# Altium integrated library TI_Logic_Little_Logic.IntLib: 1164 symbols (part 35 of 35)
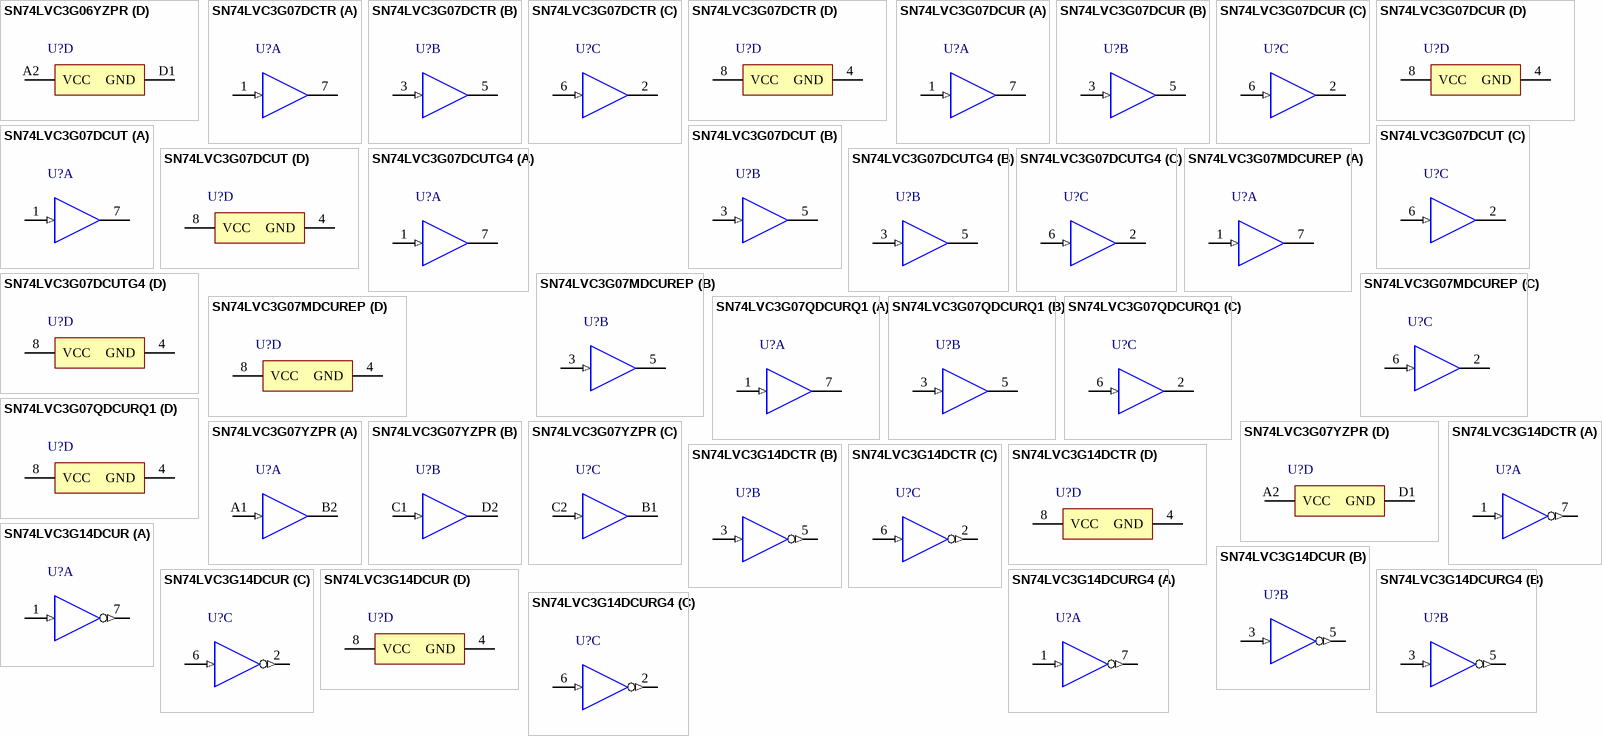
[diagram p94: symbols SN74LVC3G06YZPR to SN74LVC3G14DCURG4]

## SN74LVC3G07DCUT
designator U?
Triple Buffer/Driver With Open-Drain Output, DCU0008A, SMALL T&R; Generic Part Number: SN74LVC3G07; Manufacturer: Texas Instruments; PartNumber: SN74LVC3G07DCUT; VCC(Min)(V): 1.65; VCC(Max)(V): 5.5; Output Type: CMOS; ICC @ Nom Voltage(Max)(mA): 0.01; Input Type: CMOS/TTL; Bits(#): 3; F @ Nom Voltage(Max)(Mhz): 150; Rating: Catalog; Technology Family: LVC; Voltage(Nom)(V): 1.8,2.5,3.3,5; Schmitt Trigger: No; Output Drive (IOL/IOH)(Max)(mA): 32/-32; tpd @ Nom Voltage(Max)(ns): 8.3,4.8,4.2,3.4; Logic: True; Sub-Family: Non-Inverting Buffer/Driver; DatasheetVersion: SCES365K; PackageReference: DCU0008A; Supplier 1: Mouser; Supplier Part Number 1: 595-SN74LVC3G07DCUT; Supplier 2: Digi-Key; Supplier Part Number 2: 296-32333-2-ND; Supplier 3: Digi-Key; Supplier Part Number 3: 296-32333-1-ND; Supplier 4: Digi-Key; Supplier Part Number 4: 296-32333-6-ND; Operating Temperature Range(C): -40 to 125,-40 to 85; 3-State Output: No; ComponentLink1Description: Manufacturer URL; ComponentLink1URL: http://www.ti.com/; ComponentLink2Description: Datasheet; ComponentLink2URL: http://www.ti.com/lit/ds/symlink/sn74lvc3g07.pdf
footprint DCU0008A_N (SOP, 8-Leads, Body 2.4x2.1mm, Pitch 0.5mm, IPC Medium Density)
footprint DCU0008A_M (SOP, 8-Leads, Body 2.4x2.1mm, Pitch 0.5mm, IPC Low Density)
footprint DCU0008A_L (SOP, 8-Leads, Body 2.4x2.1mm, Pitch 0.5mm, IPC High Density)
part A pins: 1 1A (in), 7 1Y (oc)
part B pins: 3 2A (in), 5 2Y (oc)
part C pins: 2 3Y (oc), 6 3A (in)
part D pins: 4 GND (power), 8 VCC (power)

## SN74LVC3G07DCUTG4
designator U?
Triple Buffer/Driver With Open-Drain Output, DCU0008A, SMALL T&R; Generic Part Number: SN74LVC3G07; Manufacturer: Texas Instruments; PartNumber: SN74LVC3G07DCUTG4; VCC(Min)(V): 1.65; VCC(Max)(V): 5.5; Output Type: CMOS; ICC @ Nom Voltage(Max)(mA): 0.01; Input Type: CMOS/TTL; Bits(#): 3; F @ Nom Voltage(Max)(Mhz): 150; Rating: Catalog; Technology Family: LVC; Voltage(Nom)(V): 1.8,2.5,3.3,5; Schmitt Trigger: No; Output Drive (IOL/IOH)(Max)(mA): 32/-32; tpd @ Nom Voltage(Max)(ns): 8.3,4.8,4.2,3.4; Logic: True; Sub-Family: Non-Inverting Buffer/Driver; DatasheetVersion: SCES365K; PackageReference: DCU0008A; Supplier 1: Mouser; Supplier Part Number 1: 595-74LVC3G07DCUTG4; Supplier 2: Digi-Key; Supplier Part Number 2: SN74LVC3G07DCUTG4-ND; Operating Temperature Range(C): -40 to 125,-40 to 85; 3-State Output: No; ComponentLink1Description: Manufacturer URL; ComponentLink1URL: http://www.ti.com/; ComponentLink2Description: Datasheet; ComponentLink2URL: http://www.ti.com/lit/ds/symlink/sn74lvc3g07.pdf
footprint DCU0008A_N (SOP, 8-Leads, Body 2.4x2.1mm, Pitch 0.5mm, IPC Medium Density)
footprint DCU0008A_M (SOP, 8-Leads, Body 2.4x2.1mm, Pitch 0.5mm, IPC Low Density)
footprint DCU0008A_L (SOP, 8-Leads, Body 2.4x2.1mm, Pitch 0.5mm, IPC High Density)
part A pins: 1 1A (in), 7 1Y (oc)
part B pins: 3 2A (in), 5 2Y (oc)
part C pins: 2 3Y (oc), 6 3A (in)
part D pins: 4 GND (power), 8 VCC (power)

## SN74LVC3G07MDCUREP
designator U?
Enhanced Product Triple Buffer/Driver With Open-Drain Output, DCU0008A, LARGE T&R; Generic Part Number: SN74LVC3G07-EP; Manufacturer: Texas Instruments; PartNumber: SN74LVC3G07MDCUREP; VCC(Min)(V): 1.65; VCC(Max)(V): 5.5; Output Type: CMOS; ICC @ Nom Voltage(Max)(mA): 0.01; Input Type: CMOS/TTL; Bits(#): 3; F @ Nom Voltage(Max)(Mhz): 150; Rating: HiRel Enhanced Product; Technology Family: LVC; Voltage(Nom)(V): 1.8,2.5,3.3,5; Schmitt Trigger: No; Output Drive (IOL/IOH)(Max)(mA): 32/-32; tpd @ Nom Voltage(Max)(ns): 7.3,6.7,5.9; Logic: True; Sub-Family: Non-Inverting Buffer/Driver; DatasheetVersion: SCES769; PackageReference: DCU0008A; Supplier 1: Mouser; Supplier Part Number 1: 595-74LVC3G07MDCUREP; Supplier 2: Digi-Key; Supplier Part Number 2: 296-23953-2-ND; Supplier 3: Digi-Key; Supplier Part Number 3: 296-23953-1-ND; Supplier 4: Digi-Key; Supplier Part Number 4: 296-23953-6-ND; Operating Temperature Range(C): -55 to 125; 3-State Output: No; ComponentLink1Description: Manufacturer URL; ComponentLink1URL: http://www.ti.com/; ComponentLink2Description: Datasheet; ComponentLink2URL: http://www.ti.com/lit/ds/symlink/sn74lvc3g07-ep.pdf
footprint DCU0008A_N (SOP, 8-Leads, Body 2.4x2.1mm, Pitch 0.5mm, IPC Medium Density)
footprint DCU0008A_M (SOP, 8-Leads, Body 2.4x2.1mm, Pitch 0.5mm, IPC Low Density)
footprint DCU0008A_L (SOP, 8-Leads, Body 2.4x2.1mm, Pitch 0.5mm, IPC High Density)
part A pins: 1 1A (in), 7 1Y (oc)
part B pins: 3 2A (in), 5 2Y (oc)
part C pins: 2 3Y (oc), 6 3A (in)
part D pins: 4 GND (power), 8 VCC (power)

## SN74LVC3G07QDCURQ1
designator U?
Automotive Catalog Triple Buffer/Driver With Open-Drain Output, DCU0008A, LARGE T&R; Generic Part Number: SN74LVC3G07-Q1; Manufacturer: Texas Instruments; PartNumber: SN74LVC3G07QDCURQ1; VCC(Min)(V): 1.65; VCC(Max)(V): 5.5; Output Type: CMOS; ICC @ Nom Voltage(Max)(mA): 0.01; Input Type: CMOS/TTL; Bits(#): 3; F @ Nom Voltage(Max)(Mhz): 150; Technology Family: LVC; Voltage(Nom)(V): 1.8,2.5,3.3,5; Schmitt Trigger: No; Output Drive (IOL/IOH)(Max)(mA): 32/-32; tpd @ Nom Voltage(Max)(ns): 7.8,4.3,3.7,2.9; Logic: True; Sub-Family: Non-Inverting Buffer/Driver; DatasheetVersion: SCES616B; PackageReference: DCU0008A; Supplier 1: Mouser; Supplier Part Number 1: 595-SN74LVC3G07QDCQ1; Supplier 2: Digi-Key; Supplier Part Number 2: 296-23710-2-ND; Supplier 3: Digi-Key; Supplier Part Number 3: 296-23710-1-ND; Supplier 4: Digi-Key; Supplier Part Number 4: 296-23710-6-ND; Operating Temperature Range(C): -40 to 125; Rating: Automotive; 3-State Output: No; ComponentLink1Description: Manufacturer URL; ComponentLink1URL: http://www.ti.com/; ComponentLink2Description: Datasheet; ComponentLink2URL: http://www.ti.com/lit/ds/symlink/sn74lvc3g07-q1.pdf
footprint DCU0008A_N (SOP, 8-Leads, Body 2.4x2.1mm, Pitch 0.5mm, IPC Medium Density)
footprint DCU0008A_M (SOP, 8-Leads, Body 2.4x2.1mm, Pitch 0.5mm, IPC Low Density)
footprint DCU0008A_L (SOP, 8-Leads, Body 2.4x2.1mm, Pitch 0.5mm, IPC High Density)
part A pins: 1 1A (in), 7 1Y (oc)
part B pins: 3 2A (in), 5 2Y (oc)
part C pins: 2 3Y (oc), 6 3A (in)
part D pins: 4 GND (power), 8 VCC (power)

## SN74LVC3G07YZPR
designator U?
Triple Buffer/Driver With Open-Drain Output, YZP0008ADAD, LARGE T&R; Generic Part Number: SN74LVC3G07; Manufacturer: Texas Instruments; PartNumber: SN74LVC3G07YZPR; VCC(Min)(V): 1.65; VCC(Max)(V): 5.5; Output Type: CMOS; ICC @ Nom Voltage(Max)(mA): 0.01; Input Type: CMOS/TTL; Bits(#): 3; F @ Nom Voltage(Max)(Mhz): 150; Rating: Catalog; Technology Family: LVC; Voltage(Nom)(V): 1.8,2.5,3.3,5; Schmitt Trigger: No; Output Drive (IOL/IOH)(Max)(mA): 32/-32; tpd @ Nom Voltage(Max)(ns): 8.3,4.8,4.2,3.4; Logic: True; Sub-Family: Non-Inverting Buffer/Driver; DatasheetVersion: SCES365K; PackageReference: YZP0008ADAD; Supplier 1: Mouser; Supplier Part Number 1: 595-SN74LVC3G07YZPR; Supplier 2: Digi-Key; Supplier Part Number 2: 296-18260-2-ND; Supplier 3: Digi-Key; Supplier Part Number 3: 296-18260-1-ND; Supplier 4: Digi-Key; Supplier Part Number 4: 296-18260-6-ND; Operating Temperature Range(C): -40 to 125,-40 to 85; 3-State Output: No; ComponentLink1Description: Manufacturer URL; ComponentLink1URL: http://www.ti.com/; ComponentLink2Description: Datasheet; ComponentLink2URL: http://www.ti.com/lit/ds/symlink/sn74lvc3g07.pdf
footprint YZP0008ADAD (BGA, 8-Balls, Body 1.89x0.89mm, Pitch 0.5mm)
part A pins: A1 1A (in), B2 1Y (oc)
part B pins: C1 2A (in), D2 2Y (oc)
part C pins: B1 3Y (oc), C2 3A (in)
part D pins: A2 VCC (power), D1 GND (power)

## SN74LVC3G14DCTR
designator U?
Triple Schmitt-Trigger Inverter, DCT0008A, LARGE T&R; Generic Part Number: SN74LVC3G14; Manufacturer: Texas Instruments; PartNumber: SN74LVC3G14DCTR; VCC(Min)(V): 1.65; VCC(Max)(V): 5.5; Output Type: CMOS; ICC @ Nom Voltage(Max)(mA): 0.01; Input Type: CMOS/TTL; Bits(#): 3; F @ Nom Voltage(Max)(Mhz): 150; Rating: Catalog; Technology Family: LVC; Voltage(Nom)(V): 1.8,2.5,3.3,5; Schmitt Trigger: Yes; Output Drive (IOL/IOH)(Max)(mA): 32/-32; tpd @ Nom Voltage(Max)(ns): 9.2,5.7,5.4,4.3; Logic: Inverting; Sub-Family: Inverting Buffer/Driver; 3-State Output: No; DatasheetVersion: SCES367J; PackageReference: DCT0008A; Supplier 1: Mouser; Supplier Part Number 1: 595-SN74LVC3G14DCTR; Supplier 2: Digi-Key; Supplier Part Number 2: 296-13284-2-ND; Supplier 3: Digi-Key; Supplier Part Number 3: 296-13284-1-ND; Supplier 4: Digi-Key; Supplier Part Number 4: 296-13284-6-ND; Operating Temperature Range(C): -40 to 125; ComponentLink1Description: Manufacturer URL; ComponentLink1URL: http://www.ti.com/; ComponentLink2Description: Datasheet; ComponentLink2URL: http://www.ti.com/lit/ds/symlink/sn74lvc3g14.pdf
footprint DCT0008A_N (SOP, 8-Leads, Body 2.9x3.2mm, Pitch 0.65mm, IPC Medium Density)
footprint DCT0008A_M (SOP, 8-Leads, Body 2.9x3.2mm, Pitch 0.65mm, IPC Low Density)
footprint DCT0008A_L (SOP, 8-Leads, Body 2.9x3.2mm, Pitch 0.65mm, IPC High Density)
part A pins: 1 1A (in), 7 1Y (out)
part B pins: 3 2A (in), 5 2Y (out)
part C pins: 2 3Y (out), 6 3A (in)
part D pins: 4 GND (power), 8 VCC (power)

## SN74LVC3G14DCUR
designator U?
Triple Schmitt-Trigger Inverter, DCU0008A, LARGE T&R; Generic Part Number: SN74LVC3G14; Manufacturer: Texas Instruments; PartNumber: SN74LVC3G14DCUR; VCC(Min)(V): 1.65; VCC(Max)(V): 5.5; Output Type: CMOS; ICC @ Nom Voltage(Max)(mA): 0.01; Input Type: CMOS/TTL; Bits(#): 3; F @ Nom Voltage(Max)(Mhz): 150; Rating: Catalog; Technology Family: LVC; Voltage(Nom)(V): 1.8,2.5,3.3,5; Schmitt Trigger: Yes; Output Drive (IOL/IOH)(Max)(mA): 32/-32; tpd @ Nom Voltage(Max)(ns): 9.2,5.7,5.4,4.3; Logic: Inverting; Sub-Family: Inverting Buffer/Driver; 3-State Output: No; DatasheetVersion: SCES367J; PackageReference: DCU0008A; Supplier 1: Mouser; Supplier Part Number 1: 595-SN74LVC3G14DCUR; Supplier 2: Digi-Key; Supplier Part Number 2: 296-13006-2-ND; Supplier 3: Digi-Key; Supplier Part Number 3: 296-13006-1-ND; Supplier 4: Digi-Key; Supplier Part Number 4: 296-13006-6-ND; Operating Temperature Range(C): -40 to 125; ComponentLink1Description: Manufacturer URL; ComponentLink1URL: http://www.ti.com/; ComponentLink2Description: Datasheet; ComponentLink2URL: http://www.ti.com/lit/ds/symlink/sn74lvc3g14.pdf
footprint DCU0008A_N (SOP, 8-Leads, Body 2.4x2.1mm, Pitch 0.5mm, IPC Medium Density)
footprint DCU0008A_M (SOP, 8-Leads, Body 2.4x2.1mm, Pitch 0.5mm, IPC Low Density)
footprint DCU0008A_L (SOP, 8-Leads, Body 2.4x2.1mm, Pitch 0.5mm, IPC High Density)
part A pins: 1 1A (in), 7 1Y (out)
part B pins: 3 2A (in), 5 2Y (out)
part C pins: 2 3Y (out), 6 3A (in)
part D pins: 4 GND (power), 8 VCC (power)

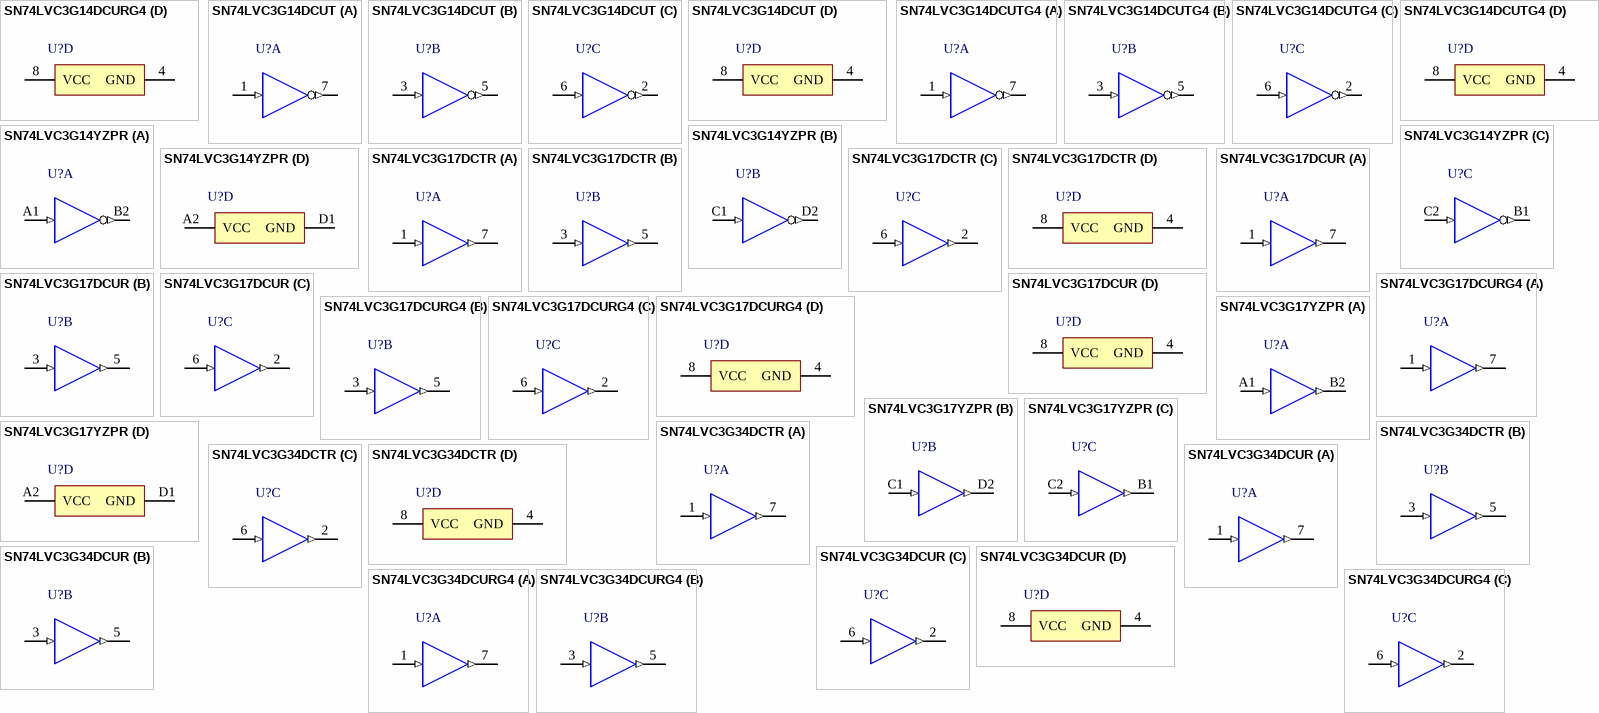
[diagram p59: symbols SN74LVC3G14DCURG4 to SN74LVC3G34DCURG4]

## SN74LVC3G14DCURG4
designator U?
Triple Schmitt-Trigger Inverter, DCU0008A, LARGE T&R; Generic Part Number: SN74LVC3G14; Manufacturer: Texas Instruments; PartNumber: SN74LVC3G14DCURG4; VCC(Min)(V): 1.65; VCC(Max)(V): 5.5; Output Type: CMOS; ICC @ Nom Voltage(Max)(mA): 0.01; Input Type: CMOS/TTL; Bits(#): 3; F @ Nom Voltage(Max)(Mhz): 150; Rating: Catalog; Technology Family: LVC; Voltage(Nom)(V): 1.8,2.5,3.3,5; Schmitt Trigger: Yes; Output Drive (IOL/IOH)(Max)(mA): 32/-32; tpd @ Nom Voltage(Max)(ns): 9.2,5.7,5.4,4.3; Logic: Inverting; Sub-Family: Inverting Buffer/Driver; 3-State Output: No; DatasheetVersion: SCES367J; PackageReference: DCU0008A; Supplier 1: Mouser; Supplier Part Number 1: 595-74LVC3G14DCURG4; Supplier 2: Digi-Key; Supplier Part Number 2: SN74LVC3G14DCURG4-ND; Operating Temperature Range(C): -40 to 125; ComponentLink1Description: Manufacturer URL; ComponentLink1URL: http://www.ti.com/; ComponentLink2Description: Datasheet; ComponentLink2URL: http://www.ti.com/lit/ds/symlink/sn74lvc3g14.pdf
footprint DCU0008A_N (SOP, 8-Leads, Body 2.4x2.1mm, Pitch 0.5mm, IPC Medium Density)
footprint DCU0008A_M (SOP, 8-Leads, Body 2.4x2.1mm, Pitch 0.5mm, IPC Low Density)
footprint DCU0008A_L (SOP, 8-Leads, Body 2.4x2.1mm, Pitch 0.5mm, IPC High Density)
part A pins: 1 1A (in), 7 1Y (out)
part B pins: 3 2A (in), 5 2Y (out)
part C pins: 2 3Y (out), 6 3A (in)
part D pins: 4 GND (power), 8 VCC (power)

## SN74LVC3G14DCUT
designator U?
Triple Schmitt-Trigger Inverter, DCU0008A, SMALL T&R; Generic Part Number: SN74LVC3G14; Manufacturer: Texas Instruments; PartNumber: SN74LVC3G14DCUT; VCC(Min)(V): 1.65; VCC(Max)(V): 5.5; Output Type: CMOS; ICC @ Nom Voltage(Max)(mA): 0.01; Input Type: CMOS/TTL; Bits(#): 3; F @ Nom Voltage(Max)(Mhz): 150; Rating: Catalog; Technology Family: LVC; Voltage(Nom)(V): 1.8,2.5,3.3,5; Schmitt Trigger: Yes; Output Drive (IOL/IOH)(Max)(mA): 32/-32; tpd @ Nom Voltage(Max)(ns): 9.2,5.7,5.4,4.3; Logic: Inverting; Sub-Family: Inverting Buffer/Driver; 3-State Output: No; DatasheetVersion: SCES367J; PackageReference: DCU0008A; Supplier 1: Mouser; Supplier Part Number 1: 595-SN74LVC3G14DCUT; Supplier 2: Digi-Key; Supplier Part Number 2: 296-32334-2-ND; Supplier 3: Digi-Key; Supplier Part Number 3: 296-32334-1-ND; Supplier 4: Digi-Key; Supplier Part Number 4: 296-32334-6-ND; Operating Temperature Range(C): -40 to 125; ComponentLink1Description: Manufacturer URL; ComponentLink1URL: http://www.ti.com/; ComponentLink2Description: Datasheet; ComponentLink2URL: http://www.ti.com/lit/ds/symlink/sn74lvc3g14.pdf
footprint DCU0008A_N (SOP, 8-Leads, Body 2.4x2.1mm, Pitch 0.5mm, IPC Medium Density)
footprint DCU0008A_M (SOP, 8-Leads, Body 2.4x2.1mm, Pitch 0.5mm, IPC Low Density)
footprint DCU0008A_L (SOP, 8-Leads, Body 2.4x2.1mm, Pitch 0.5mm, IPC High Density)
part A pins: 1 1A (in), 7 1Y (out)
part B pins: 3 2A (in), 5 2Y (out)
part C pins: 2 3Y (out), 6 3A (in)
part D pins: 4 GND (power), 8 VCC (power)

## SN74LVC3G14DCUTG4
designator U?
Triple Schmitt-Trigger Inverter, DCU0008A, SMALL T&R; Generic Part Number: SN74LVC3G14; Manufacturer: Texas Instruments; PartNumber: SN74LVC3G14DCUTG4; VCC(Min)(V): 1.65; VCC(Max)(V): 5.5; Output Type: CMOS; ICC @ Nom Voltage(Max)(mA): 0.01; Input Type: CMOS/TTL; Bits(#): 3; F @ Nom Voltage(Max)(Mhz): 150; Rating: Catalog; Technology Family: LVC; Voltage(Nom)(V): 1.8,2.5,3.3,5; Schmitt Trigger: Yes; Output Drive (IOL/IOH)(Max)(mA): 32/-32; tpd @ Nom Voltage(Max)(ns): 9.2,5.7,5.4,4.3; Logic: Inverting; Sub-Family: Inverting Buffer/Driver; 3-State Output: No; DatasheetVersion: SCES367J; PackageReference: DCU0008A; Supplier 1: Mouser; Supplier Part Number 1: 595-S74LVC3G14DCUTG4; Supplier 2: Digi-Key; Supplier Part Number 2: SN74LVC3G14DCUTG4-ND; Operating Temperature Range(C): -40 to 125; ComponentLink1Description: Manufacturer URL; ComponentLink1URL: http://www.ti.com/; ComponentLink2Description: Datasheet; ComponentLink2URL: http://www.ti.com/lit/ds/symlink/sn74lvc3g14.pdf
footprint DCU0008A_N (SOP, 8-Leads, Body 2.4x2.1mm, Pitch 0.5mm, IPC Medium Density)
footprint DCU0008A_M (SOP, 8-Leads, Body 2.4x2.1mm, Pitch 0.5mm, IPC Low Density)
footprint DCU0008A_L (SOP, 8-Leads, Body 2.4x2.1mm, Pitch 0.5mm, IPC High Density)
part A pins: 1 1A (in), 7 1Y (out)
part B pins: 3 2A (in), 5 2Y (out)
part C pins: 2 3Y (out), 6 3A (in)
part D pins: 4 GND (power), 8 VCC (power)

## SN74LVC3G14YZPR
designator U?
Triple Schmitt-Trigger Inverter, YZP0008ADAD, LARGE T&R; Generic Part Number: SN74LVC3G14; Manufacturer: Texas Instruments; PartNumber: SN74LVC3G14YZPR; VCC(Min)(V): 1.65; VCC(Max)(V): 5.5; Output Type: CMOS; ICC @ Nom Voltage(Max)(mA): 0.01; Input Type: CMOS/TTL; Bits(#): 3; F @ Nom Voltage(Max)(Mhz): 150; Rating: Catalog; Technology Family: LVC; Voltage(Nom)(V): 1.8,2.5,3.3,5; Schmitt Trigger: Yes; Output Drive (IOL/IOH)(Max)(mA): 32/-32; tpd @ Nom Voltage(Max)(ns): 9.2,5.7,5.4,4.3; Logic: Inverting; Sub-Family: Inverting Buffer/Driver; 3-State Output: No; DatasheetVersion: SCES367J; PackageReference: YZP0008ADAD; Supplier 1: Mouser; Supplier Part Number 1: 595-SN74LVC3G14YZPR; Supplier 2: Digi-Key; Supplier Part Number 2: 296-18817-2-ND; Supplier 3: Digi-Key; Supplier Part Number 3: 296-18817-1-ND; Supplier 4: Digi-Key; Supplier Part Number 4: 296-18817-6-ND; Operating Temperature Range(C): -40 to 125; ComponentLink1Description: Manufacturer URL; ComponentLink1URL: http://www.ti.com/; ComponentLink2Description: Datasheet; ComponentLink2URL: http://www.ti.com/lit/ds/symlink/sn74lvc3g14.pdf
footprint YZP0008ADAD (BGA, 8-Balls, Body 1.89x0.89mm, Pitch 0.5mm)
part A pins: A1 1A (in), B2 1Y (out)
part B pins: C1 2A (in), D2 2Y (out)
part C pins: B1 3Y (out), C2 3A (in)
part D pins: A2 VCC (power), D1 GND (power)

## SN74LVC3G17DCTR
designator U?
TRIPLE SCHMITT-TRIGGER BUFFER, DCT0008A, LARGE T&R; Generic Part Number: SN74LVC3G17; Manufacturer: Texas Instruments; PartNumber: SN74LVC3G17DCTR; VCC(Min)(V): 1.65; VCC(Max)(V): 5.5; Output Type: CMOS; ICC @ Nom Voltage(Max)(mA): 0.01; Input Type: CMOS/TTL; Bits(#): 3; F @ Nom Voltage(Max)(Mhz): 150; Rating: Catalog; Technology Family: LVC; Voltage(Nom)(V): 1.8,2.5,3.3,5; Schmitt Trigger: Yes; Output Drive (IOL/IOH)(Max)(mA): 32/-32; tpd @ Nom Voltage(Max)(ns): 9.2,6.2,5.4,4.1; Logic: True; Sub-Family: Non-Inverting Buffer/Driver; 3-State Output: No; DatasheetVersion: SCES470E; PackageReference: DCT0008A; Supplier 1: Mouser; Supplier Part Number 1: 595-SN74LVC3G17DCTR; Supplier 2: Digi-Key; Supplier Part Number 2: 296-16915-2-ND; Supplier 3: Digi-Key; Supplier Part Number 3: 296-16915-1-ND; Supplier 4: Digi-Key; Supplier Part Number 4: 296-16915-6-ND; Operating Temperature Range(C): -40 to 125,-40 to 85; ComponentLink1Description: Manufacturer URL; ComponentLink1URL: http://www.ti.com/; ComponentLink2Description: Datasheet; ComponentLink2URL: http://www.ti.com/lit/ds/symlink/sn74lvc3g17.pdf
footprint DCT0008A_N (SOP, 8-Leads, Body 2.9x3.2mm, Pitch 0.65mm, IPC Medium Density)
footprint DCT0008A_M (SOP, 8-Leads, Body 2.9x3.2mm, Pitch 0.65mm, IPC Low Density)
footprint DCT0008A_L (SOP, 8-Leads, Body 2.9x3.2mm, Pitch 0.65mm, IPC High Density)
part A pins: 1 1A (in), 7 1Y (out)
part B pins: 3 2A (in), 5 2Y (out)
part C pins: 2 3Y (out), 6 3A (in)
part D pins: 4 GND (power), 8 VCC (power)

## SN74LVC3G17DCUR
designator U?
TRIPLE SCHMITT-TRIGGER BUFFER, DCU0008A, LARGE T&R; Generic Part Number: SN74LVC3G17; Manufacturer: Texas Instruments; PartNumber: SN74LVC3G17DCUR; VCC(Min)(V): 1.65; VCC(Max)(V): 5.5; Output Type: CMOS; ICC @ Nom Voltage(Max)(mA): 0.01; Input Type: CMOS/TTL; Bits(#): 3; F @ Nom Voltage(Max)(Mhz): 150; Rating: Catalog; Technology Family: LVC; Voltage(Nom)(V): 1.8,2.5,3.3,5; Schmitt Trigger: Yes; Output Drive (IOL/IOH)(Max)(mA): 32/-32; tpd @ Nom Voltage(Max)(ns): 9.2,6.2,5.4,4.1; Logic: True; Sub-Family: Non-Inverting Buffer/Driver; 3-State Output: No; DatasheetVersion: SCES470E; PackageReference: DCU0008A; Supplier 1: Mouser; Supplier Part Number 1: 595-SN74LVC3G17DCUR; Supplier 2: Digi-Key; Supplier Part Number 2: 296-18818-2-ND; Supplier 3: Digi-Key; Supplier Part Number 3: 296-18818-1-ND; Supplier 4: Digi-Key; Supplier Part Number 4: 296-18818-6-ND; Operating Temperature Range(C): -40 to 125,-40 to 85; ComponentLink1Description: Manufacturer URL; ComponentLink1URL: http://www.ti.com/; ComponentLink2Description: Datasheet; ComponentLink2URL: http://www.ti.com/lit/ds/symlink/sn74lvc3g17.pdf
footprint DCU0008A_N (SOP, 8-Leads, Body 2.4x2.1mm, Pitch 0.5mm, IPC Medium Density)
footprint DCU0008A_M (SOP, 8-Leads, Body 2.4x2.1mm, Pitch 0.5mm, IPC Low Density)
footprint DCU0008A_L (SOP, 8-Leads, Body 2.4x2.1mm, Pitch 0.5mm, IPC High Density)
part A pins: 1 1A (in), 7 1Y (out)
part B pins: 3 2A (in), 5 2Y (out)
part C pins: 2 3Y (out), 6 3A (in)
part D pins: 4 GND (power), 8 VCC (power)

## SN74LVC3G17DCURG4
designator U?
TRIPLE SCHMITT-TRIGGER BUFFER, DCU0008A, LARGE T&R; Generic Part Number: SN74LVC3G17; Manufacturer: Texas Instruments; PartNumber: SN74LVC3G17DCURG4; VCC(Min)(V): 1.65; VCC(Max)(V): 5.5; Output Type: CMOS; ICC @ Nom Voltage(Max)(mA): 0.01; Input Type: CMOS/TTL; Bits(#): 3; F @ Nom Voltage(Max)(Mhz): 150; Rating: Catalog; Technology Family: LVC; Voltage(Nom)(V): 1.8,2.5,3.3,5; Schmitt Trigger: Yes; Output Drive (IOL/IOH)(Max)(mA): 32/-32; tpd @ Nom Voltage(Max)(ns): 9.2,6.2,5.4,4.1; Logic: True; Sub-Family: Non-Inverting Buffer/Driver; 3-State Output: No; DatasheetVersion: SCES470E; PackageReference: DCU0008A; Supplier 1: Mouser; Supplier Part Number 1: 595-74LVC3G17DCURG4; Supplier 2: Digi-Key; Supplier Part Number 2: SN74LVC3G17DCURG4-ND; Operating Temperature Range(C): -40 to 125,-40 to 85; ComponentLink1Description: Manufacturer URL; ComponentLink1URL: http://www.ti.com/; ComponentLink2Description: Datasheet; ComponentLink2URL: http://www.ti.com/lit/ds/symlink/sn74lvc3g17.pdf
footprint DCU0008A_N (SOP, 8-Leads, Body 2.4x2.1mm, Pitch 0.5mm, IPC Medium Density)
footprint DCU0008A_M (SOP, 8-Leads, Body 2.4x2.1mm, Pitch 0.5mm, IPC Low Density)
footprint DCU0008A_L (SOP, 8-Leads, Body 2.4x2.1mm, Pitch 0.5mm, IPC High Density)
part A pins: 1 1A (in), 7 1Y (out)
part B pins: 3 2A (in), 5 2Y (out)
part C pins: 2 3Y (out), 6 3A (in)
part D pins: 4 GND (power), 8 VCC (power)

## SN74LVC3G17YZPR
designator U?
TRIPLE SCHMITT-TRIGGER BUFFER, YZP0008ADAD, LARGE T&R; Generic Part Number: SN74LVC3G17; Manufacturer: Texas Instruments; PartNumber: SN74LVC3G17YZPR; VCC(Min)(V): 1.65; VCC(Max)(V): 5.5; Output Type: CMOS; ICC @ Nom Voltage(Max)(mA): 0.01; Input Type: CMOS/TTL; Bits(#): 3; F @ Nom Voltage(Max)(Mhz): 150; Rating: Catalog; Technology Family: LVC; Voltage(Nom)(V): 1.8,2.5,3.3,5; Schmitt Trigger: Yes; Output Drive (IOL/IOH)(Max)(mA): 32/-32; tpd @ Nom Voltage(Max)(ns): 9.2,6.2,5.4,4.1; Logic: True; Sub-Family: Non-Inverting Buffer/Driver; 3-State Output: No; DatasheetVersion: SCES470E; PackageReference: YZP0008ADAD; Supplier 1: Mouser; Supplier Part Number 1: 595-SN74LVC3G17YZPR; Supplier 2: Digi-Key; Supplier Part Number 2: 296-18819-2-ND; Supplier 3: Digi-Key; Supplier Part Number 3: 296-18819-1-ND; Supplier 4: Digi-Key; Supplier Part Number 4: 296-18819-6-ND; Operating Temperature Range(C): -40 to 125,-40 to 85; ComponentLink1Description: Manufacturer URL; ComponentLink1URL: http://www.ti.com/; ComponentLink2Description: Datasheet; ComponentLink2URL: http://www.ti.com/lit/ds/symlink/sn74lvc3g17.pdf
footprint YZP0008ADAD (BGA, 8-Balls, Body 1.89x0.89mm, Pitch 0.5mm)
part A pins: A1 1A (in), B2 1Y (out)
part B pins: C1 2A (in), D2 2Y (out)
part C pins: B1 3Y (out), C2 3A (in)
part D pins: A2 VCC (power), D1 GND (power)

## SN74LVC3G34DCTR
designator U?
Triple Buffer Gate, DCT0008A, LARGE T&R; Generic Part Number: SN74LVC3G34; Manufacturer: Texas Instruments; PartNumber: SN74LVC3G34DCTR; VCC(Min)(V): 1.65; VCC(Max)(V): 5.5; Output Type: CMOS; ICC @ Nom Voltage(Max)(mA): 0.01; Input Type: CMOS/TTL; Bits(#): 3; F @ Nom Voltage(Max)(Mhz): 150; Rating: Catalog; Technology Family: LVC; Voltage(Nom)(V): 1.8,2.5,3.3,5; Schmitt Trigger: No; Output Drive (IOL/IOH)(Max)(mA): 32/-32; tpd @ Nom Voltage(Max)(ns): 7.9,4.4,4.1,3.2; Logic: True; Sub-Family: Non-Inverting Buffer/Driver; DatasheetVersion: SCES366K; PackageReference: DCT0008A; Supplier 1: Mouser; Supplier Part Number 1: 595-SN74LVC3G34DCTR; Supplier 2: Digi-Key; Supplier Part Number 2: 296-13285-2-ND; Supplier 3: Digi-Key; Supplier Part Number 3: 296-13285-1-ND; Supplier 4: Digi-Key; Supplier Part Number 4: 296-13285-6-ND; Operating Temperature Range(C): -40 to 125,-40 to 85; 3-State Output: No; ComponentLink1Description: Manufacturer URL; ComponentLink1URL: http://www.ti.com/; ComponentLink2Description: Datasheet; ComponentLink2URL: http://www.ti.com/lit/ds/symlink/sn74lvc3g34.pdf
footprint DCT0008A_N (SOP, 8-Leads, Body 2.9x3.2mm, Pitch 0.65mm, IPC Medium Density)
footprint DCT0008A_M (SOP, 8-Leads, Body 2.9x3.2mm, Pitch 0.65mm, IPC Low Density)
footprint DCT0008A_L (SOP, 8-Leads, Body 2.9x3.2mm, Pitch 0.65mm, IPC High Density)
part A pins: 1 1A (in), 7 1Y (out)
part B pins: 3 2A (in), 5 2Y (out)
part C pins: 2 3Y (out), 6 3A (in)
part D pins: 4 GND (power), 8 VCC (power)

## SN74LVC3G34DCUR
designator U?
Triple Buffer Gate, DCU0008A, LARGE T&R; Generic Part Number: SN74LVC3G34; Manufacturer: Texas Instruments; PartNumber: SN74LVC3G34DCUR; VCC(Min)(V): 1.65; VCC(Max)(V): 5.5; Output Type: CMOS; ICC @ Nom Voltage(Max)(mA): 0.01; Input Type: CMOS/TTL; Bits(#): 3; F @ Nom Voltage(Max)(Mhz): 150; Rating: Catalog; Technology Family: LVC; Voltage(Nom)(V): 1.8,2.5,3.3,5; Schmitt Trigger: No; Output Drive (IOL/IOH)(Max)(mA): 32/-32; tpd @ Nom Voltage(Max)(ns): 7.9,4.4,4.1,3.2; Logic: True; Sub-Family: Non-Inverting Buffer/Driver; DatasheetVersion: SCES366K; PackageReference: DCU0008A; Supplier 1: Mouser; Supplier Part Number 1: 595-SN74LVC3G34DCUR; Supplier 2: Digi-Key; Supplier Part Number 2: 296-13286-2-ND; Supplier 3: Digi-Key; Supplier Part Number 3: 296-13286-1-ND; Supplier 4: Digi-Key; Supplier Part Number 4: 296-13286-6-ND; Operating Temperature Range(C): -40 to 125,-40 to 85; 3-State Output: No; ComponentLink1Description: Manufacturer URL; ComponentLink1URL: http://www.ti.com/; ComponentLink2Description: Datasheet; ComponentLink2URL: http://www.ti.com/lit/ds/symlink/sn74lvc3g34.pdf
footprint DCU0008A_N (SOP, 8-Leads, Body 2.4x2.1mm, Pitch 0.5mm, IPC Medium Density)
footprint DCU0008A_M (SOP, 8-Leads, Body 2.4x2.1mm, Pitch 0.5mm, IPC Low Density)
footprint DCU0008A_L (SOP, 8-Leads, Body 2.4x2.1mm, Pitch 0.5mm, IPC High Density)
part A pins: 1 1A (in), 7 1Y (out)
part B pins: 3 2A (in), 5 2Y (out)
part C pins: 2 3Y (out), 6 3A (in)
part D pins: 4 GND (power), 8 VCC (power)

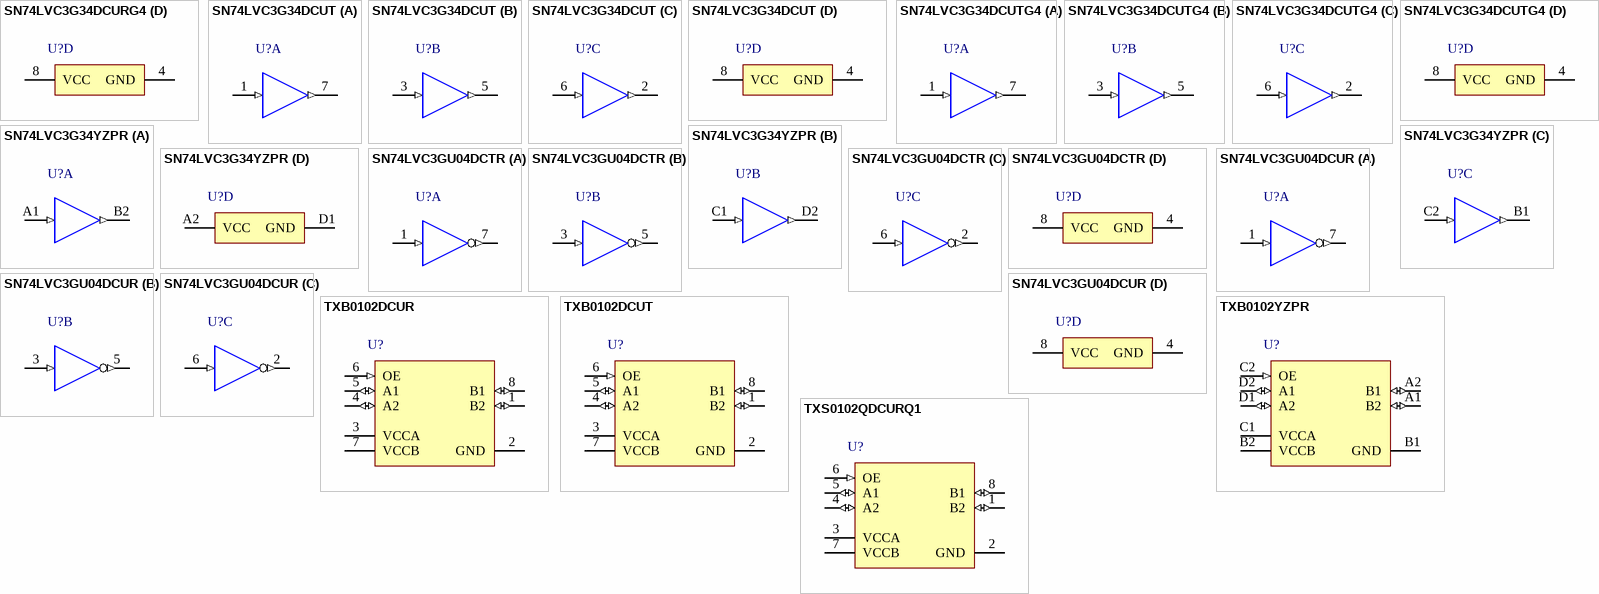
[diagram p60: symbols SN74LVC3G34DCURG4 to TXS0102QDCURQ1]

## SN74LVC3G34DCURG4
designator U?
Triple Buffer Gate, DCU0008A, LARGE T&R; Generic Part Number: SN74LVC3G34; Manufacturer: Texas Instruments; PartNumber: SN74LVC3G34DCURG4; VCC(Min)(V): 1.65; VCC(Max)(V): 5.5; Output Type: CMOS; ICC @ Nom Voltage(Max)(mA): 0.01; Input Type: CMOS/TTL; Bits(#): 3; F @ Nom Voltage(Max)(Mhz): 150; Rating: Catalog; Technology Family: LVC; Voltage(Nom)(V): 1.8,2.5,3.3,5; Schmitt Trigger: No; Output Drive (IOL/IOH)(Max)(mA): 32/-32; tpd @ Nom Voltage(Max)(ns): 7.9,4.4,4.1,3.2; Logic: True; Sub-Family: Non-Inverting Buffer/Driver; DatasheetVersion: SCES366K; PackageReference: DCU0008A; Supplier 1: Mouser; Supplier Part Number 1: 595-S74LVC3G34DCURG4; Supplier 2: Digi-Key; Supplier Part Number 2: SN74LVC3G34DCURG4-ND; Operating Temperature Range(C): -40 to 125,-40 to 85; 3-State Output: No; ComponentLink1Description: Manufacturer URL; ComponentLink1URL: http://www.ti.com/; ComponentLink2Description: Datasheet; ComponentLink2URL: http://www.ti.com/lit/ds/symlink/sn74lvc3g34.pdf
footprint DCU0008A_N (SOP, 8-Leads, Body 2.4x2.1mm, Pitch 0.5mm, IPC Medium Density)
footprint DCU0008A_M (SOP, 8-Leads, Body 2.4x2.1mm, Pitch 0.5mm, IPC Low Density)
footprint DCU0008A_L (SOP, 8-Leads, Body 2.4x2.1mm, Pitch 0.5mm, IPC High Density)
part A pins: 1 1A (in), 7 1Y (out)
part B pins: 3 2A (in), 5 2Y (out)
part C pins: 2 3Y (out), 6 3A (in)
part D pins: 4 GND (power), 8 VCC (power)

## SN74LVC3G34DCUT
designator U?
Triple Buffer Gate, DCU0008A, SMALL T&R; Generic Part Number: SN74LVC3G34; Manufacturer: Texas Instruments; PartNumber: SN74LVC3G34DCUT; VCC(Min)(V): 1.65; VCC(Max)(V): 5.5; Output Type: CMOS; ICC @ Nom Voltage(Max)(mA): 0.01; Input Type: CMOS/TTL; Bits(#): 3; F @ Nom Voltage(Max)(Mhz): 150; Rating: Catalog; Technology Family: LVC; Voltage(Nom)(V): 1.8,2.5,3.3,5; Schmitt Trigger: No; Output Drive (IOL/IOH)(Max)(mA): 32/-32; tpd @ Nom Voltage(Max)(ns): 7.9,4.4,4.1,3.2; Logic: True; Sub-Family: Non-Inverting Buffer/Driver; DatasheetVersion: SCES366K; PackageReference: DCU0008A; Supplier 1: Mouser; Supplier Part Number 1: 595-SN74LVC3G34DCUT; Supplier 2: Digi-Key; Supplier Part Number 2: 296-32335-2-ND; Supplier 3: Digi-Key; Supplier Part Number 3: 296-32335-1-ND; Supplier 4: Digi-Key; Supplier Part Number 4: 296-32335-6-ND; Operating Temperature Range(C): -40 to 125,-40 to 85; 3-State Output: No; ComponentLink1Description: Manufacturer URL; ComponentLink1URL: http://www.ti.com/; ComponentLink2Description: Datasheet; ComponentLink2URL: http://www.ti.com/lit/ds/symlink/sn74lvc3g34.pdf
footprint DCU0008A_N (SOP, 8-Leads, Body 2.4x2.1mm, Pitch 0.5mm, IPC Medium Density)
footprint DCU0008A_M (SOP, 8-Leads, Body 2.4x2.1mm, Pitch 0.5mm, IPC Low Density)
footprint DCU0008A_L (SOP, 8-Leads, Body 2.4x2.1mm, Pitch 0.5mm, IPC High Density)
part A pins: 1 1A (in), 7 1Y (out)
part B pins: 3 2A (in), 5 2Y (out)
part C pins: 2 3Y (out), 6 3A (in)
part D pins: 4 GND (power), 8 VCC (power)

## SN74LVC3G34DCUTG4
designator U?
Triple Buffer Gate, DCU0008A, SMALL T&R; Generic Part Number: SN74LVC3G34; Manufacturer: Texas Instruments; PartNumber: SN74LVC3G34DCUTG4; VCC(Min)(V): 1.65; VCC(Max)(V): 5.5; Output Type: CMOS; ICC @ Nom Voltage(Max)(mA): 0.01; Input Type: CMOS/TTL; Bits(#): 3; F @ Nom Voltage(Max)(Mhz): 150; Rating: Catalog; Technology Family: LVC; Voltage(Nom)(V): 1.8,2.5,3.3,5; Schmitt Trigger: No; Output Drive (IOL/IOH)(Max)(mA): 32/-32; tpd @ Nom Voltage(Max)(ns): 7.9,4.4,4.1,3.2; Logic: True; Sub-Family: Non-Inverting Buffer/Driver; DatasheetVersion: SCES366K; PackageReference: DCU0008A; Supplier 1: Mouser; Supplier Part Number 1: 595-74LVC3G34DCUTG4; Supplier 2: Digi-Key; Supplier Part Number 2: SN74LVC3G34DCUTG4-ND; Operating Temperature Range(C): -40 to 125,-40 to 85; 3-State Output: No; ComponentLink1Description: Manufacturer URL; ComponentLink1URL: http://www.ti.com/; ComponentLink2Description: Datasheet; ComponentLink2URL: http://www.ti.com/lit/ds/symlink/sn74lvc3g34.pdf
footprint DCU0008A_N (SOP, 8-Leads, Body 2.4x2.1mm, Pitch 0.5mm, IPC Medium Density)
footprint DCU0008A_M (SOP, 8-Leads, Body 2.4x2.1mm, Pitch 0.5mm, IPC Low Density)
footprint DCU0008A_L (SOP, 8-Leads, Body 2.4x2.1mm, Pitch 0.5mm, IPC High Density)
part A pins: 1 1A (in), 7 1Y (out)
part B pins: 3 2A (in), 5 2Y (out)
part C pins: 2 3Y (out), 6 3A (in)
part D pins: 4 GND (power), 8 VCC (power)

## SN74LVC3G34YZPR
designator U?
Triple Buffer Gate, YZP0008ADAD, LARGE T&R; Generic Part Number: SN74LVC3G34; Manufacturer: Texas Instruments; PartNumber: SN74LVC3G34YZPR; VCC(Min)(V): 1.65; VCC(Max)(V): 5.5; Output Type: CMOS; ICC @ Nom Voltage(Max)(mA): 0.01; Input Type: CMOS/TTL; Bits(#): 3; F @ Nom Voltage(Max)(Mhz): 150; Rating: Catalog; Technology Family: LVC; Voltage(Nom)(V): 1.8,2.5,3.3,5; Schmitt Trigger: No; Output Drive (IOL/IOH)(Max)(mA): 32/-32; tpd @ Nom Voltage(Max)(ns): 7.9,4.4,4.1,3.2; Logic: True; Sub-Family: Non-Inverting Buffer/Driver; DatasheetVersion: SCES366K; PackageReference: YZP0008ADAD; Supplier 1: Mouser; Supplier Part Number 1: 595-SN74LVC3G34YZPR; Supplier 2: Digi-Key; Supplier Part Number 2: 296-15111-2-ND; Supplier 3: Digi-Key; Supplier Part Number 3: 296-15111-1-ND; Supplier 4: Digi-Key; Supplier Part Number 4: 296-15111-6-ND; Operating Temperature Range(C): -40 to 125,-40 to 85; 3-State Output: No; ComponentLink1Description: Manufacturer URL; ComponentLink1URL: http://www.ti.com/; ComponentLink2Description: Datasheet; ComponentLink2URL: http://www.ti.com/lit/ds/symlink/sn74lvc3g34.pdf
footprint YZP0008ADAD (BGA, 8-Balls, Body 1.89x0.89mm, Pitch 0.5mm)
part A pins: A1 1A (in), B2 1Y (out)
part B pins: C1 2A (in), D2 2Y (out)
part C pins: B1 3Y (out), C2 3A (in)
part D pins: A2 VCC (power), D1 GND (power)

## SN74LVC3GU04DCTR
designator U?
Triple Inverter Gate, DCT0008A, LARGE T&R; Generic Part Number: SN74LVC3GU04; Manufacturer: Texas Instruments; PartNumber: SN74LVC3GU04DCTR; VCC(Min)(V): 1.65; VCC(Max)(V): 5.5; Output Type: CMOS; ICC @ Nom Voltage(Max)(mA): 0.01; Input Type: CMOS/TTL; Bits(#): 3; F @ Nom Voltage(Max)(Mhz): 150; Rating: Catalog; Technology Family: LVC; Voltage(Nom)(V): 1.8,2.5,3.3,5; Schmitt Trigger: No; Output Drive (IOL/IOH)(Max)(mA): 32/-32; tpd @ Nom Voltage(Max)(ns): 9.2,4,3.9,3.2; Logic: True; Sub-Family: Inverting Buffer/Driver; DatasheetVersion: SCES539D; PackageReference: DCT0008A; Supplier 1: Mouser; Supplier Part Number 1: 595-SN74LVC3GU04DCTR; Supplier 2: Digi-Key; Supplier Part Number 2: 296-18820-2-ND; Supplier 3: Digi-Key; Supplier Part Number 3: 296-18820-1-ND; Supplier 4: Digi-Key; Supplier Part Number 4: 296-18820-6-ND; Operating Temperature Range(C): -40 to 125; 3-State Output: No; ComponentLink1Description: Manufacturer URL; ComponentLink1URL: http://www.ti.com/; ComponentLink2Description: Datasheet; ComponentLink2URL: http://www.ti.com/lit/ds/symlink/sn74lvc3gu04.pdf
footprint DCT0008A_N (SOP, 8-Leads, Body 2.9x3.2mm, Pitch 0.65mm, IPC Medium Density)
footprint DCT0008A_M (SOP, 8-Leads, Body 2.9x3.2mm, Pitch 0.65mm, IPC Low Density)
footprint DCT0008A_L (SOP, 8-Leads, Body 2.9x3.2mm, Pitch 0.65mm, IPC High Density)
part A pins: 1 1A (in), 7 1Y (out)
part B pins: 3 2A (in), 5 2Y (out)
part C pins: 2 3Y (out), 6 3A (in)
part D pins: 4 GND (power), 8 VCC (power)

## SN74LVC3GU04DCUR
designator U?
Triple Inverter Gate, DCU0008A, LARGE T&R; Generic Part Number: SN74LVC3GU04; Manufacturer: Texas Instruments; PartNumber: SN74LVC3GU04DCUR; VCC(Min)(V): 1.65; VCC(Max)(V): 5.5; Output Type: CMOS; ICC @ Nom Voltage(Max)(mA): 0.01; Input Type: CMOS/TTL; Bits(#): 3; F @ Nom Voltage(Max)(Mhz): 150; Rating: Catalog; Technology Family: LVC; Voltage(Nom)(V): 1.8,2.5,3.3,5; Schmitt Trigger: No; Output Drive (IOL/IOH)(Max)(mA): 32/-32; tpd @ Nom Voltage(Max)(ns): 9.2,4,3.9,3.2; Logic: True; Sub-Family: Inverting Buffer/Driver; DatasheetVersion: SCES539D; PackageReference: DCU0008A; Supplier 1: Mouser; Supplier Part Number 1: 595-SN74LVC3GU04DCUR; Supplier 2: Digi-Key; Supplier Part Number 2: 296-18821-2-ND; Supplier 3: Digi-Key; Supplier Part Number 3: 296-18821-1-ND; Supplier 4: Digi-Key; Supplier Part Number 4: 296-18821-6-ND; Operating Temperature Range(C): -40 to 125; 3-State Output: No; ComponentLink1Description: Manufacturer URL; ComponentLink1URL: http://www.ti.com/; ComponentLink2Description: Datasheet; ComponentLink2URL: http://www.ti.com/lit/ds/symlink/sn74lvc3gu04.pdf
footprint DCU0008A_N (SOP, 8-Leads, Body 2.4x2.1mm, Pitch 0.5mm, IPC Medium Density)
footprint DCU0008A_M (SOP, 8-Leads, Body 2.4x2.1mm, Pitch 0.5mm, IPC Low Density)
footprint DCU0008A_L (SOP, 8-Leads, Body 2.4x2.1mm, Pitch 0.5mm, IPC High Density)
part A pins: 1 1A (in), 7 1Y (out)
part B pins: 3 2A (in), 5 2Y (out)
part C pins: 2 3Y (out), 6 3A (in)
part D pins: 4 GND (power), 8 VCC (power)

## TXB0102DCUR
designator U?
2-Bit Bidirectional Voltage-Level Translator with Auto Direction Sensing and +/-15-kV ESD Protect, DCU0008A, LARGE T&R; Generic Part Number: TXB0102; Manufacturer: Texas Instruments; PartNumber: TXB0102DCUR; VCC(Min)(V): 1.2; VCC(Max)(V): 5.5; Output Type: CMOS; Logic: True; ICC @ Nom Voltage(Max)(mA): 0.005; Input Type: CMOS/TTL; Bits(#): 2; Rating: Catalog; Voltage(Nom)(V): 3.3; Schmitt Trigger: No; Sub-Family: Dual Supply Translator; tpd @ Nom Voltage(Max)(ns): 4.9; DatasheetVersion: SCES641C; PackageReference: DCU0008A; Supplier 1: Mouser; Supplier Part Number 1: 595-TXB0102DCUR; Supplier 2: Digi-Key; Supplier Part Number 2: 296-22862-2-ND; Supplier 3: Digi-Key; Supplier Part Number 3: 296-22862-1-ND; Supplier 4: Digi-Key; Supplier Part Number 4: 296-22862-6-ND; Operating Temperature Range(C): -40 to 85; 3-State Output: No; ComponentLink1Description: Manufacturer URL; ComponentLink1URL: http://www.ti.com/; ComponentLink2Description: Datasheet; ComponentLink2URL: http://www.ti.com/lit/ds/symlink/txb0102.pdf
footprint DCU0008A_N (SOP, 8-Leads, Body 2.4x2.1mm, Pitch 0.5mm, IPC Medium Density)
footprint DCU0008A_M (SOP, 8-Leads, Body 2.4x2.1mm, Pitch 0.5mm, IPC Low Density)
footprint DCU0008A_L (SOP, 8-Leads, Body 2.4x2.1mm, Pitch 0.5mm, IPC High Density)
pins: 1 B2 (io) "Input/output B. Referenced to VCCB.", 2 GND (power) "Ground", 3 VCCA (power) "A-port supply voltage. 1.1 V =< VCCA =< 3.6 V, VCCA =< VCCB", 4 A2 (io) "Input/output A2. Referenced to VCCA.", 5 A1 (io) "Input/output A1. Referenced to VCCA.", 6 OE (in) "3-state output-mode enable. Pull OE low to place all outputs in 3-state mode. Referenced to VCCA.", 7 VCCB (power) "B-port supply voltage. 1.65 V =< VCCB =< 5.5 V", 8 B1 (io) "Input/output B1. Referenced to VCCB."

## TXB0102DCUT
designator U?
2-Bit Bidirectional Voltage-Level Translator with Auto Direction Sensing and +/-15-kV ESD Protect, DCU0008A, SMALL T&R; Generic Part Number: TXB0102; Manufacturer: Texas Instruments; PartNumber: TXB0102DCUT; VCC(Min)(V): 1.2; VCC(Max)(V): 5.5; Output Type: CMOS; Logic: True; ICC @ Nom Voltage(Max)(mA): 0.005; Input Type: CMOS/TTL; Bits(#): 2; Rating: Catalog; Voltage(Nom)(V): 3.3; Schmitt Trigger: No; Sub-Family: Dual Supply Translator; tpd @ Nom Voltage(Max)(ns): 4.9; DatasheetVersion: SCES641C; PackageReference: DCU0008A; Supplier 1: Mouser; Supplier Part Number 1: 595-TXB0102DCUT; Supplier 2: Digi-Key; Supplier Part Number 2: 296-32601-2-ND; Supplier 3: Digi-Key; Supplier Part Number 3: 296-32601-1-ND; Supplier 4: Digi-Key; Supplier Part Number 4: 296-32601-6-ND; Operating Temperature Range(C): -40 to 85; 3-State Output: No; ComponentLink1Description: Manufacturer URL; ComponentLink1URL: http://www.ti.com/; ComponentLink2Description: Datasheet; ComponentLink2URL: http://www.ti.com/lit/ds/symlink/txb0102.pdf
footprint DCU0008A_N (SOP, 8-Leads, Body 2.4x2.1mm, Pitch 0.5mm, IPC Medium Density)
footprint DCU0008A_M (SOP, 8-Leads, Body 2.4x2.1mm, Pitch 0.5mm, IPC Low Density)
footprint DCU0008A_L (SOP, 8-Leads, Body 2.4x2.1mm, Pitch 0.5mm, IPC High Density)
pins: 1 B2 (io) "Input/output B. Referenced to VCCB.", 2 GND (power) "Ground", 3 VCCA (power) "A-port supply voltage. 1.1 V =< VCCA =< 3.6 V, VCCA =< VCCB", 4 A2 (io) "Input/output A2. Referenced to VCCA.", 5 A1 (io) "Input/output A1. Referenced to VCCA.", 6 OE (in) "3-state output-mode enable. Pull OE low to place all outputs in 3-state mode. Referenced to VCCA.", 7 VCCB (power) "B-port supply voltage. 1.65 V =< VCCB =< 5.5 V", 8 B1 (io) "Input/output B1. Referenced to VCCB."

## TXB0102YZPR
designator U?
2-Bit Bidirectional Voltage-Level Translator with Auto Direction Sensing and +/-15-kV ESD Protect, YZP0008ADAD, LARGE T&R; Generic Part Number: TXB0102; Manufacturer: Texas Instruments; PartNumber: TXB0102YZPR; VCC(Min)(V): 1.2; VCC(Max)(V): 5.5; Output Type: CMOS; Logic: True; ICC @ Nom Voltage(Max)(mA): 0.005; Input Type: CMOS/TTL; Bits(#): 2; Rating: Catalog; Voltage(Nom)(V): 3.3; Schmitt Trigger: No; Sub-Family: Dual Supply Translator; tpd @ Nom Voltage(Max)(ns): 4.9; DatasheetVersion: SCES641C; PackageReference: YZP0008ADAD; Supplier 1: Mouser; Supplier Part Number 1: 595-TXB0102YZPR; Supplier 2: Digi-Key; Supplier Part Number 2: 296-21961-2-ND; Supplier 3: Digi-Key; Supplier Part Number 3: 296-21961-1-ND; Supplier 4: Digi-Key; Supplier Part Number 4: 296-21961-6-ND; Operating Temperature Range(C): -40 to 85; 3-State Output: No; ComponentLink1Description: Manufacturer URL; ComponentLink1URL: http://www.ti.com/; ComponentLink2Description: Datasheet; ComponentLink2URL: http://www.ti.com/lit/ds/symlink/txb0102.pdf
footprint YZP0008ADAD (BGA, 8-Balls, Body 1.89x0.89mm, Pitch 0.5mm)
pins: A1 B2 (io) "Input/output B. Referenced to VCCB.", A2 B1 (io) "Input/output B1. Referenced to VCCB.", B1 GND (power) "Ground", B2 VCCB (power) "B-port supply voltage. 1.65 V =< VCCB =< 5.5 V", C1 VCCA (power) "A-port supply voltage. 1.1 V =< VCCA =< 3.6 V, VCCA =< VCCB", C2 OE (in) "3-state output-mode enable. Pull OE low to place all outputs in 3-state mode. Referenced to VCCA.", D1 A2 (io) "Input/output A2. Referenced to VCCA.", D2 A1 (io) "Input/output A1. Referenced to VCCA."

## TXS0102QDCURQ1
designator U?
Automotive 2-Bit Bidirectional Voltage-Level Translator for Open-Drain and Push-Pull Application, DCU0008A, LARGE T&R; Generic Part Number: TXS0102-Q1; Manufacturer: Texas Instruments; PartNumber: TXS0102QDCURQ1; VCC(Min)(V): 1.65; VCC(Max)(V): 5.5; Output Type: CMOS; Logic: True; ICC @ Nom Voltage(Max)(mA): 0.012; Input Type: TTL; Bits(#): 2; Voltage(Nom)(V): 3.3; Schmitt Trigger: No; Sub-Family: Dual Supply Translator; tpd @ Nom Voltage(Max)(ns): 4.2; DatasheetVersion: SCES854; PackageReference: DCU0008A; Supplier 1: Mouser; Supplier Part Number 1: 595-TXS0102QDCURQ1; Supplier 2: Digi-Key; Supplier Part Number 2: 296-37938-2-ND; Supplier 3: Digi-Key; Supplier Part Number 3: 296-37938-1-ND; Supplier 4: Digi-Key; Supplier Part Number 4: 296-37938-6-ND; Operating Temperature Range(C): -40 to 125; Rating: Automotive; 3-State Output: No; ComponentLink1Description: Manufacturer URL; ComponentLink1URL: http://www.ti.com/; ComponentLink2Description: Datasheet; ComponentLink2URL: http://www.ti.com/lit/ds/symlink/txs0102-q1.pdf
footprint DCU0008A_N (SOP, 8-Leads, Body 2.4x2.1mm, Pitch 0.5mm, IPC Medium Density)
footprint DCU0008A_M (SOP, 8-Leads, Body 2.4x2.1mm, Pitch 0.5mm, IPC Low Density)
footprint DCU0008A_L (SOP, 8-Leads, Body 2.4x2.1mm, Pitch 0.5mm, IPC High Density)
pins: 1 B2 (io) "Input-output 2 for the B port. This pin is referenced to VCCB.", 2 GND (power) "Ground", 3 VCCA (power) "A-port supply voltage. 1.65 V =< VCCA =< 3.6 V and VCCA =< VCCB", 4 A2 (io) "Input-output 2 for the A port. This pin is referenced to VCCA.", 5 A1 (io) "Input-output 1 for the A port. This pin is referenced to VCCA.", 6 OE (in) "Tri-state output-mode enable. Pull the OE pin low to place all outputs in tri-state mode. This pin is OE 6 O referenced to VCCA.", 7 VCCB (power) "B-port supply voltage. 2.3 V =< VCCB =< 5.5 V.", 8 B1 (io) "Input-output 1 for the B port. This pin is referenced to VCCB."